# Altium footprint library 常用元件.PcbLib: 186 footprints (part 11 of 12)
Each footprint in its own frame and in the unit in brackets; x right, y up, seen from the top. Pads: shape width x height; smd on the part's side, far side on the other; paste and mask are expansions set on the pad; w line width, h text height; cw(c..) or ccw(c..) is an arc to the next point about the centre after c.
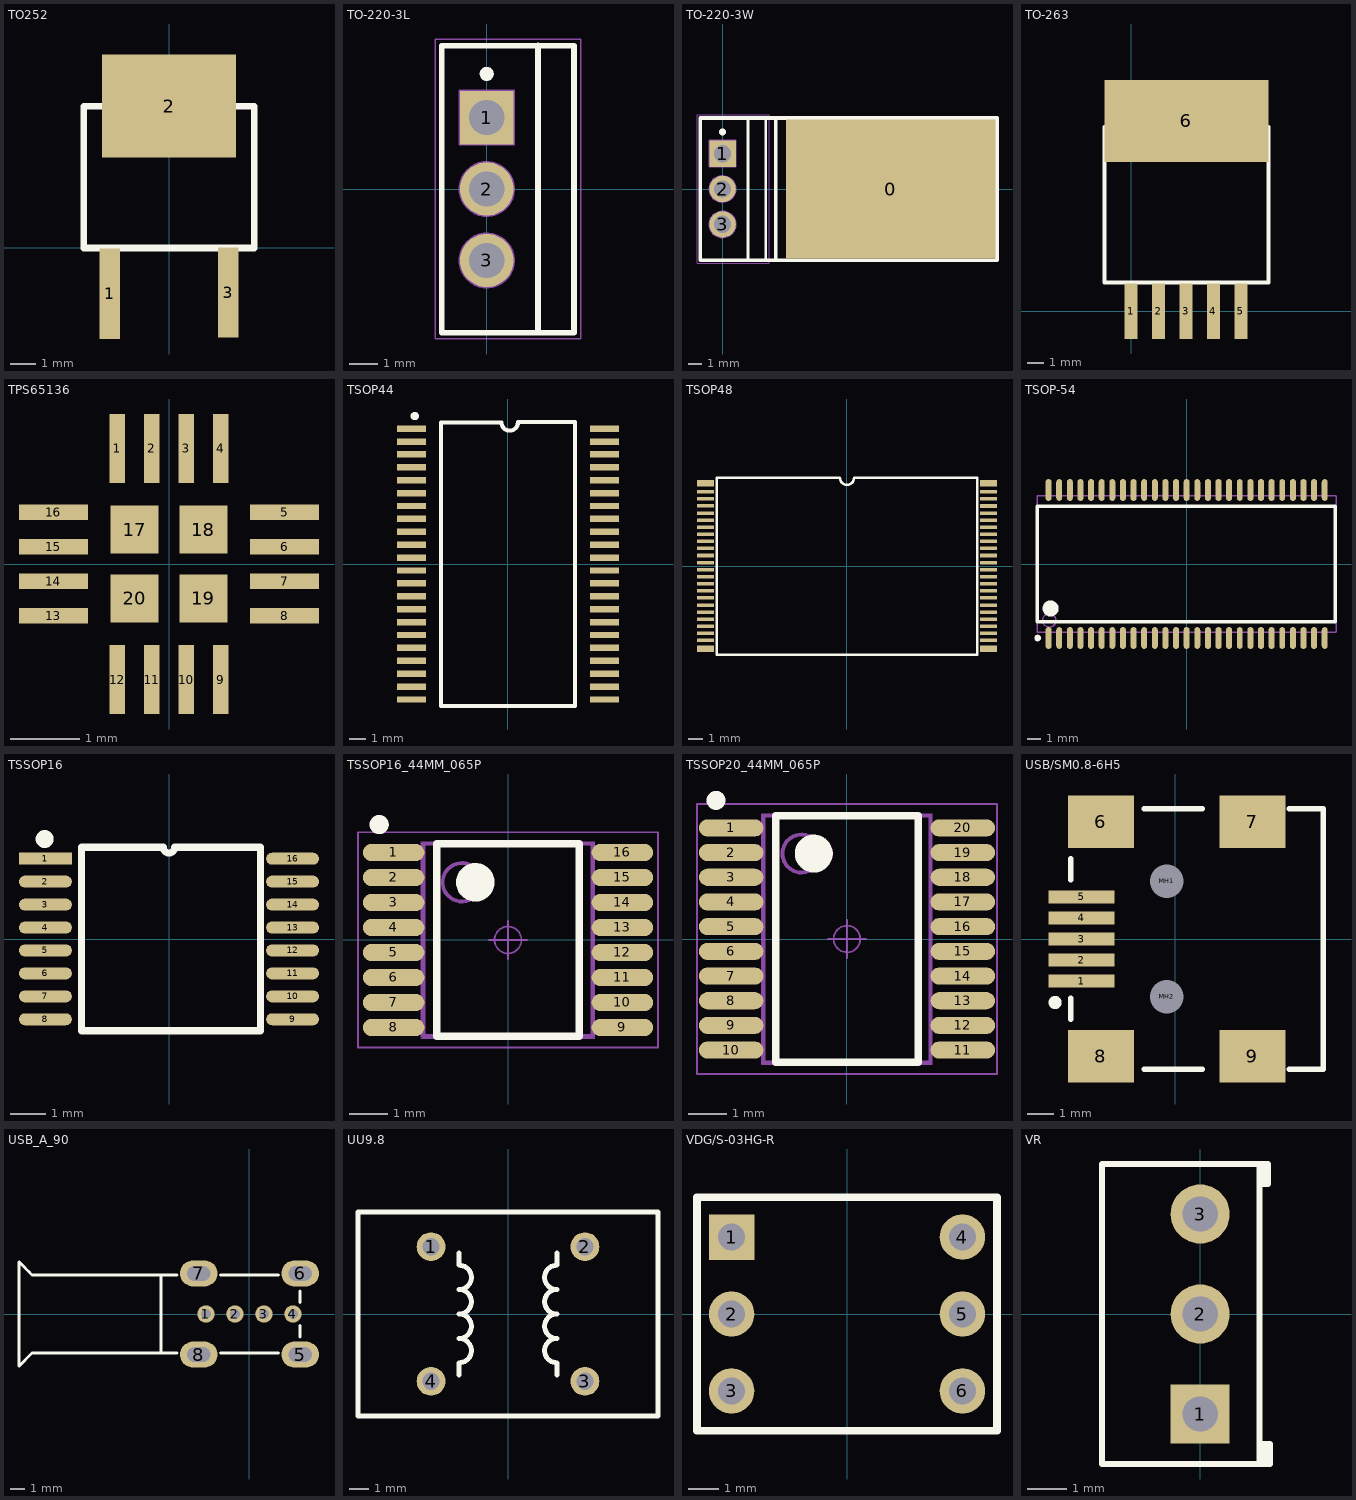
[diagram p10: the footprints below, top view; thin cyan lines are the x and y axes]

## TO252 [mm]
pads (3):
  rect 0.8x3.5 smd: 1(-2.3,-1.778) 3(2.3,-1.727)
  rect 5.2x4 smd: 2(0,5.5)
Top Overlay:
  lines w0.254: -3.3,0 3.3,0 3.3,5.5 -3.3,5.5 -3.3,0
3D body: height 2.37, standoff -0.03, extent -3.341,-2.491 3.393,7.609

## TO-220-3L [mm]
pads (3):
  rect 1.9x1.9 hole 1.25: 1(0,2.54)
  round 1.9 hole 1.25: 2(0,0) 3(0,-2.54)
Top Overlay:
  circle w0.25: c0,4.09 r0.125
  lines w0.2: 1.82,-5.1 1.82,5.1 ; -1.6,-5.11 -1.6,5.09 3.1,5.09 3.1,-5.11 -1.6,-5.11
Mechanical 15:
  circle w0.1: c0,-2.54 r0.95
  circle w0.1: c0,0 r0.95
  lines w0.1: 1.82,-5.08 1.82,5.08 ; -1.58,-5.08 -1.58,5.08 3.09,5.08 3.09,-5.08 -1.58,-5.08 ; -0.95,1.59 0.95,1.59 0.95,3.49 -0.95,3.49 -0.95,1.59
Mechanical 16:
  circle w0.05: c0,2.54 r0.35
  lines w0.001: -1.58,-5.08 -1.58,5.08 3.09,5.08 3.09,-5.08 -1.58,-5.08
  lines w0.05: -0.5,2.54 0.5,2.54 ; 0,2.04 0,3.04 ; -1.83,-5.33 -1.83,5.33 3.34,5.33 3.34,-5.33 -1.83,-5.33

## TO-220-3W [mm]
pads (4):
  rect 15x10 smd: 0(12.065,0)
  rect 1.9x1.9 hole 1.25: 1(0,2.54)
  round 1.9 hole 1.25: 2(0,0) 3(0,-2.54)
Top Overlay:
  circle w0.25: c0,4.09 r0.125
  lines w0.127: 15,5 15,5.09
  lines w0.2: 1.82,-5.1 1.82,5.1 ; 3.1,-5.11 3.1,5.09
  lines w0.254: 3.8,-5.11 3.8,5.09 ; -1.6,-5.11 3.1,-5.11 8.39,-5.11 19.68,-5.11 19.68,5.09 8.41,5.09 3.1,5.09 -1.6,5.09 -1.6,-5.11
Mechanical 15:
  circle w0.1: c0,0 r0.95
  circle w0.1: c0,-2.54 r0.95
  lines w0.1: 1.82,-5.08 1.82,5.08 ; -1.58,-5.08 3.09,-5.08 3.09,5.08 -1.58,5.08 -1.58,-5.08 ; -0.95,1.59 -0.95,3.49 0.95,3.49 0.95,1.59 -0.95,1.59
Mechanical 16:
  circle w0.05: c0,2.54 r0.35
  lines w0.001: -1.58,-5.08 3.09,-5.08 3.09,5.08 -1.58,5.08 -1.58,-5.08
  lines w0.05: -0.5,2.54 0.5,2.54 ; 0,2.04 0,3.04 ; -1.83,-5.33 3.34,-5.33 3.34,5.33 -1.83,5.33 -1.83,-5.33

## TO-263 [mil]
pads (6):
  rect 32x135 smd: 1(0,0) 2(67,0) 3(134,0) 4(201,0) 5(268,0)
  rect 400x200 smd: 6(135,465)
Top Overlay:
  lines w10: -65,70 335,70 335,450 -65,450 -65,70
3D body: height 187.01, standoff -4.39, extent -77.2,-31.48 348,533.48

## TPS65136 [mm]
pads (20):
  rect 0.23x1 smd: 1(-0.75,1.675) 2(-0.25,1.675) 3(0.25,1.675) 4(0.75,1.675) 9(0.75,-1.675) 10(0.25,-1.675) 11(-0.25,-1.675) 12(-0.75,-1.675)
  rect 1x0.23 smd: 5(1.675,0.75) 6(1.675,0.25) 7(1.675,-0.25) 8(1.675,-0.75) 13(-1.675,-0.75) 14(-1.675,-0.25) 15(-1.675,0.25) 16(-1.675,0.75)
  rect 0.7x0.7 smd: 17(-0.5,0.5) 18(0.5,0.5) 19(0.5,-0.5) 20(-0.5,-0.5)

## TSOP44 [mm]
pads (44):
  rect 1.8x0.4 smd: 1(-6,8.4) 2(-6,7.6) 3(-6,6.8) 4(-6,6) 5(-6,5.2) 6(-6,4.4) 7(-6,3.6) 8(-6,2.8) 9(-6,2) 10(-6,1.2) 11(-6,0.4) 12(-6,-0.4) 13(-6,-1.2) 14(-6,-2) 15(-6,-2.8) 16(-6,-3.6) 17(-6,-4.4) 18(-6,-5.2) 19(-6,-6) 20(-6,-6.8) 21(-6,-7.6) 22(-6,-8.4) 23(6,-8.4) 24(6,-7.6) 25(6,-6.8) 26(6,-6) 27(6,-5.2) 28(6,-4.4) 29(6,-3.6) 30(6,-2.8) 31(6,-2) 32(6,-1.2) 33(6,-0.4) 34(6,0.4) 35(6,1.2) 36(6,2) 37(6,2.8) 38(6,3.6) 39(6,4.4) 40(6,5.2) 41(6,6) 42(6,6.8) 43(6,7.6) 44(6,8.4)
Top Overlay:
  circle w0.254: c-5.783,9.181 r0.127
  lines w0.2: -4.165,-8.8 4.165,-8.8
  lines w0.254: 0.613,8.78 cw(c0.105,8.78) -0.403,8.78 -4.145,8.78 -4.145,-8.78 -4.165,-8.8 4.165,-8.8 ; 0.633,8.8 4.165,8.8 4.165,-8.8 ; 4.165,-8.8 4.165,-8.8

## TSOP48 [mm]
pads (48):
  rect 1.2x0.45 smd: 1(-10,5.85) 24(-10,-5.85) 25(10,-5.85) 48(10,5.85)
  rect 1.2x0.25 smd: 2(-10,5.25) 3(-10,4.75) 4(-10,4.25) 5(-10,3.75) 6(-10,3.25) 7(-10,2.75) 8(-10,2.25) 9(-10,1.75) 10(-10,1.25) 11(-10,0.75) 12(-10,0.25) 13(-10,-0.25) 14(-10,-0.75) 15(-10,-1.25) 16(-10,-1.75) 17(-10,-2.25) 18(-10,-2.75) 19(-10,-3.25) 20(-10,-3.75) 21(-10,-4.25) 22(-10,-4.75) 23(-10,-5.25) 26(10,-5.25) 27(10,-4.75) 28(10,-4.25) 29(10,-3.75) 30(10,-3.25) 31(10,-2.75) 32(10,-2.25) 33(10,-1.75) 34(10,-1.25) 35(10,-0.75) 36(10,-0.25) 37(10,0.25) 38(10,0.75) 39(10,1.25) 40(10,1.75) 41(10,2.25) 42(10,2.75) 43(10,3.25) 44(10,3.75) 45(10,4.25) 46(10,4.75) 47(10,5.25)
Top Overlay:
  lines w0.178: -9.2,-6.25 9.2,-6.25 9.2,6.25 0.5,6.25 cw(c0,6.25) -0.5,6.25 -9.2,6.25 -9.2,-6.25

## TSOP-54 [mm]
pads (54):
  oval 0.45x1.65 smd: 1(-10.4,-5.575) 2(-9.6,-5.575) 3(-8.8,-5.575) 4(-8,-5.575) 5(-7.2,-5.575) 6(-6.4,-5.575) 7(-5.6,-5.575) 8(-4.8,-5.575) 9(-4,-5.575) 10(-3.2,-5.575) 11(-2.4,-5.575) 12(-1.6,-5.575) 13(-0.8,-5.575) 14(0,-5.575) 15(0.8,-5.575) 16(1.6,-5.575) 17(2.4,-5.575) 18(3.2,-5.575) 19(4,-5.575) 20(4.8,-5.575) 21(5.6,-5.575) 22(6.4,-5.575) 23(7.2,-5.575) 24(8,-5.575) 25(8.8,-5.575) 26(9.6,-5.575) 27(10.4,-5.575) 28(10.4,5.575) 29(9.6,5.575) 30(8.8,5.575) 31(8,5.575) 32(7.2,5.575) 33(6.4,5.575) 34(5.6,5.575) 35(4.8,5.575) 36(4,5.575) 37(3.2,5.575) 38(2.4,5.575) 39(1.6,5.575) 40(0.8,5.575) 41(0,5.575) 42(-0.8,5.575) 43(-1.6,5.575) 44(-2.4,5.575) 45(-3.2,5.575) 46(-4,5.575) 47(-4.8,5.575) 48(-5.6,5.575) 49(-6.4,5.575) 50(-7.2,5.575) 51(-8,5.575) 52(-8.8,5.575) 53(-9.6,5.575) 54(-10.4,5.575)
Top Overlay:
  circle w0.6: c-10.25,-3.35 r0.3
  circle w0.25: c-11.225,-5.575 r0.125
  lines w0.254: -11.25,-4.35 -11.25,4.35 11.2,4.35 11.2,-4.35 -11.25,-4.35
Mechanical 13:
  circle w0.1: c-10.35,-4.25 r0.5
  lines w0.1: -11.25,-5.15 -11.25,5.15 11.25,5.15 11.25,-5.15 -11.25,-5.15

## TSSOP16 [mm]
pads (16):
  rect 1.5x0.34 smd: 1(-3.5,2.275)
  oval 1.5x0.34 smd: 2(-3.5,1.625) 3(-3.5,0.975) 4(-3.5,0.325) 5(-3.5,-0.325) 6(-3.5,-0.975) 7(-3.5,-1.625) 8(-3.5,-2.275) 9(3.5,-2.275) 10(3.5,-1.625) 11(3.5,-0.975) 12(3.5,-0.325) 13(3.5,0.325) 14(3.5,0.975) 15(3.5,1.625) 16(3.5,2.275)
Top Overlay:
  circle w0.254: c-3.522,2.831 r0.127
  lines w0.2: -2.484,-2.6 -2.484,-1.046 -2.484,1.046 -2.484,2.6 -0.162,2.6 ccw(c0,2.6) 0.162,2.6 2.596,2.6 2.596,-2.6 -2.484,-2.6
3D body: height 1.1, standoff 0, extent -3.2,-2.525 3.2,2.475

## TSSOP16_44MM_065P [mm]
pads (16):
  oval 1.6x0.45 smd: 1(-2.975,2.275) 2(-2.975,1.625) 3(-2.975,0.975) 4(-2.975,0.325) 5(-2.975,-0.325) 6(-2.975,-0.975) 7(-2.975,-1.625) 8(-2.975,-2.275) 9(2.975,-2.275) 10(2.975,-1.625) 11(2.975,-0.975) 12(2.975,-0.325) 13(2.975,0.325) 14(2.975,0.975) 15(2.975,1.625) 16(2.975,2.275)
Top Overlay:
  circle w0.25: c-3.35,3 r0.125
  circle w0.5: c-0.85,1.5 r0.25
  lines w0.2: -1.85,-2.5 -1.85,2.5 1.85,2.5 1.85,-2.5 -1.85,-2.5
Mechanical 15:
  circle w0.1: c-1.2,1.5 r0.5
  lines w0.1: -2.2,-2.5 -2.2,2.5 2.2,2.5 2.2,-2.5 -2.2,-2.5
Mechanical 16:
  circle w0.05: c0,0 r0.35
  lines w0.001: -2.25,-2.55 -2.25,2.55 2.25,2.55 2.25,-2.55 -2.25,-2.55
  lines w0.05: -0.5,0 0.5,0 ; 0,-0.5 0,0.5 ; -3.9,-2.8 -3.9,2.8 3.9,2.8 3.9,-2.8 -3.9,-2.8

## TSSOP20_44MM_065P [mm]
pads (20):
  oval 1.7x0.45 smd: 1(-3.05,2.925) 2(-3.05,2.275) 3(-3.05,1.625) 4(-3.05,0.975) 5(-3.05,0.325) 6(-3.05,-0.325) 7(-3.05,-0.975) 8(-3.05,-1.625) 9(-3.05,-2.275) 10(-3.05,-2.925) 11(3.05,-2.925) 12(3.05,-2.275) 13(3.05,-1.625) 14(3.05,-0.975) 15(3.05,-0.325) 16(3.05,0.325) 17(3.05,0.975) 18(3.05,1.625) 19(3.05,2.275) 20(3.05,2.925)
Top Overlay:
  circle w0.25: c-3.45,3.65 r0.125
  circle w0.5: c-0.875,2.25 r0.25
  lines w0.2: -1.875,-3.25 -1.875,3.25 1.875,3.25 1.875,-3.25 -1.875,-3.25
Mechanical 15:
  circle w0.1: c-1.2,2.25 r0.5
  lines w0.1: -2.2,-3.25 -2.2,3.25 2.2,3.25 2.2,-3.25 -2.2,-3.25
Mechanical 16:
  circle w0.05: c0,0 r0.35
  lines w0.001: -2.25,-3.3 -2.25,3.3 2.25,3.3 2.25,-3.3 -2.25,-3.3
  lines w0.05: -0.5,0 0.5,0 ; 0,-0.5 0,0.5 ; -3.95,-3.55 -3.95,3.55 3.95,3.55 3.95,-3.55 -3.95,-3.55
3D body: height 1.2, standoff 0, extent -3.249,-3.275 3.351,3.325

## USB/SM0.8-6H5 [mm] "USB_MINI"
pads (11):
  rect 2.5x0.5 smd: 1(-3.564,-1.6) 2(-3.564,-0.8) 3(-3.564,0) 4(-3.564,0.8) 5(-3.564,1.6)
  rect 2.5x2 smd: 6(-2.827,4.45) 7(2.927,4.45) 8(-2.827,-4.45) 9(2.927,-4.45)
  round 0.6 hole 1.27 unplated: MH1(-0.327,2.2) MH2(-0.327,-2.2)
Top Overlay:
  circle w0.25: c-4.572,-2.413 r0.125
  lines w0.2: -3.977,-3.05 -3.977,-2.25 ; -3.977,2.25 -3.977,3.05 ; -1.177,-4.95 1.023,-4.95 ; -1.177,4.95 1.023,4.95 ; 4.323,-4.95 5.623,-4.95 5.623,4.95 4.323,4.95
3D body: height 3.93, standoff -1, extent -3.761,-5.023 5.489,4.877

## USB_A_90 [mm]
pads (8):
  round 1.2 hole 0.7: 1(-3,0) 2(-1,0) 3(1,0) 4(3,0)
  oval 2.6x1.8 hole 1 slot 1.6 at 0 deg: 5(3.5,-2.8) 6(3.5,2.8) 7(-3.5,2.8) 8(-3.5,-2.8)
Top Overlay:
  lines w0.203: -15.25,2.95 -15,2.7 ; -13.7,-2.7 -5,-2.7 ; -13.3,-2.7 -15,-2.7 -15.9,-3.6 -15.9,3.6 -15,2.7 ; -12.1,2.7 -15,2.7 ; -6.1,-2.7 -6.1,2.7 ; -5,2.7 -15,2.7 ; -2,-2.7 2,-2.7 ; -2,2.7 2,2.7 ; 3.5,-1.6 3.5,-0.8 ; 3.5,0.8 3.5,1.6

## UU9.8 [mm]
pads (4):
  round 1.5 hole 0.9: 1(-4,3.5) 2(4,3.5) 3(4,-3.5) 4(-4,-3.5)
Top Overlay:
  lines w0.254: -2.54,-3.175 -2.54,-2.54 ccw(c-2.54,-1.905) -2.54,-1.27 ccw(c-2.54,-0.635) -2.54,0 ccw(c-2.54,0.635) -2.54,1.27 ccw(c-2.54,1.905) -2.54,2.54 -2.54,3.175 ; 2.54,-3.175 2.54,-2.54 cw(c2.54,-1.905) 2.54,-1.27 cw(c2.54,-0.635) 2.54,0 cw(c2.54,0.635) 2.54,1.27 cw(c2.54,1.905) 2.54,2.54 2.54,3.175 ; -7.8,-5.3 7.8,-5.3 7.8,5.3 -7.8,5.3 -7.8,-5.3

## VDG/S-03HG-R [mm]
pads (6):
  rect 1.5x1.5 hole 0.9: 1(-3.81,2.54)
  round 1.5 hole 0.9: 2(-3.81,0) 3(-3.81,-2.54) 4(3.81,2.54) 5(3.81,0) 6(3.81,-2.54)
Top Overlay:
  lines w0.254: -4.95,3.81 -4.95,-3.85 4.95,-3.85 ; -4.95,3.85 4.95,3.85 ; 4.95,-3.81 4.95,3.81

## VR [mm]
pads (3):
  rect 1.5x1.5 hole 0.9: 1(0,-2.54)
  round 1.5 hole 0.9: 2(0,0) 3(0,2.54)
Top Overlay:
  lines w0.152: 1.499,3.81 1.727,3.81 1.727,3.302 1.588,3.302 ; 1.549,-3.302 1.778,-3.302 1.778,-3.81 1.5,-3.81 ; 1.588,3.72 1.588,3.302 ; 1.613,3.81 1.613,3.327 1.588,3.302 ; 1.639,-3.392 1.639,-3.81 1.664,-3.785 1.664,-3.302 ; 1.5,-3.81 1.5,3.81 -2.5,3.81 -2.5,-3.81 1.5,-3.81